# Altium integrated library DWM1000.IntLib: 1 symbol
Pins are listed as number, name and electrical type; pins without a type are passive.

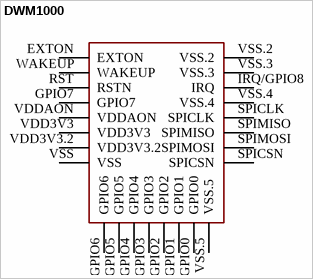
[diagram p0: symbol DWM1000]

## DWM1000
designator ?
footprint DWM1000
pins: EXTON, GPIO0, GPIO1, GPIO2, GPIO3, GPIO4, GPIO5, GPIO6, GPIO7, IRQ/GPIO8 IRQ, RST RSTN, SPICLK, SPICSN, SPIMISO, SPIMOSI, VDD3V3, VDD3V3.2, VDDAON, VSS, VSS.2, VSS.3, VSS.4, VSS.5, WAKEUP